# EAGLE library part RJ45-8Z4 (library RJ45-8Z4)
RJ45-8Z4 M0=F9770 Source: Datasheet <https://media.digikey.com/pdf/Data Sheets/Tyco Electronics Corcom PDFs/Z_Series.pdf>
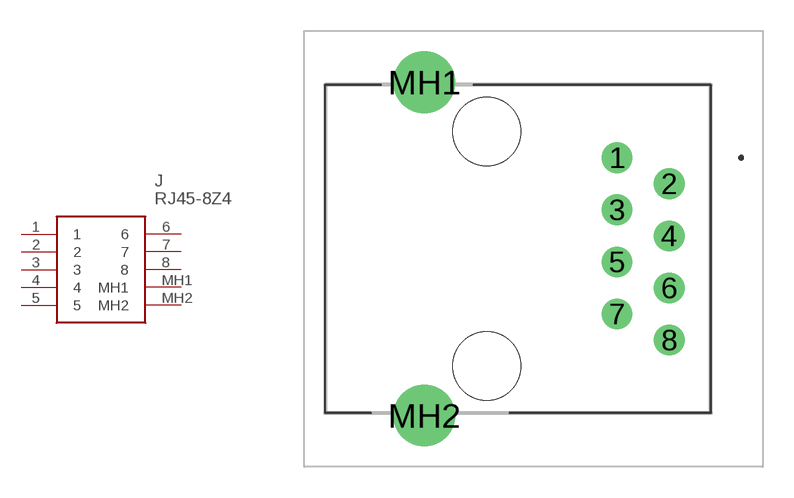
[diagram p0: symbol with the pads of RJ458Z4; footprint RJ458Z4]

Designator prefix J

## RJ45-8Z4 (Description: RJ45-8Z4 M0=F9770; Height: 13.08mm; Manufacturer_Name: TE Connectivity; Manufacturer_Part_Number: RJ45-8Z4; Mouser_Part_Number: 592-RJ45-8Z4; Mouser_Price-Stock: https://www.mouser.com/Search/Refine.aspx?Keyword=592-RJ45-8Z4)  [RJ458Z4]
1  1
2  2
3  3
4  4
5  5
6  6
7  7
8  8
MH1  MH1
MH2  MH2

## Footprint RJ458Z4 (pad centres in mm)
RJ45-8Z4-1
drill 0.96 pad 1.493: 1 0,0; 2 2.54,-1.27; 3 0,-2.54; 4 2.54,-3.81; 5 0,-5.08; 6 2.54,-6.35; 7 0,-7.62; 8 2.54,-8.89
drill 2.01 pad 3.015: MH1 -9.4,3.68; MH2 -9.4,-12.57
hole 3.33 at -6.35,1.27
hole 3.33 at -6.35,-10.16